# Altium schematic symbol library AD7746ARUZ.SchLib: 1 symbol
Pins are listed as number, name and electrical type; pins without a type are passive.

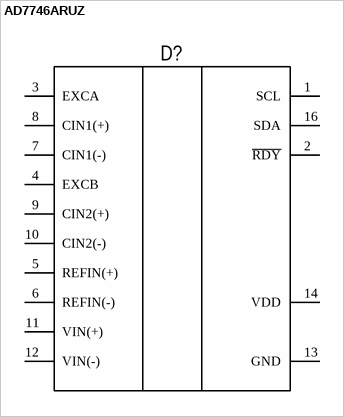
[diagram p0: symbol AD7746ARUZ]

## AD7746ARUZ
designator D?, comment 24-разрядный АЦП. Шум < -100дБ  (value not drawn)
24-разрядный CDC; producer: Analog Devices; type: AD7746ARUZ; case: TSSOP-16
pins: 1 SCL, 2 ~{RDY}, 3 EXCA, 4 EXCB, 5 REFIN(+), 6 REFIN(-), 7 CIN1(-), 8 CIN1(+), 9 CIN2(+), 10 CIN2(-), 11 VIN(+), 12 VIN(-), 13 GND, 14 VDD, 16 SDA